# EAGLE library part PIC10F20* (library microchip)
Microchip PIC10F200, 202, 204 and 206 6-pin 8-bit Flash microcontroller 256/512 words program memory, 16/24 bytes RAM 4 I/O, 1 8-bit timer, 1 comparator on PIC10F204 and PIC10F206
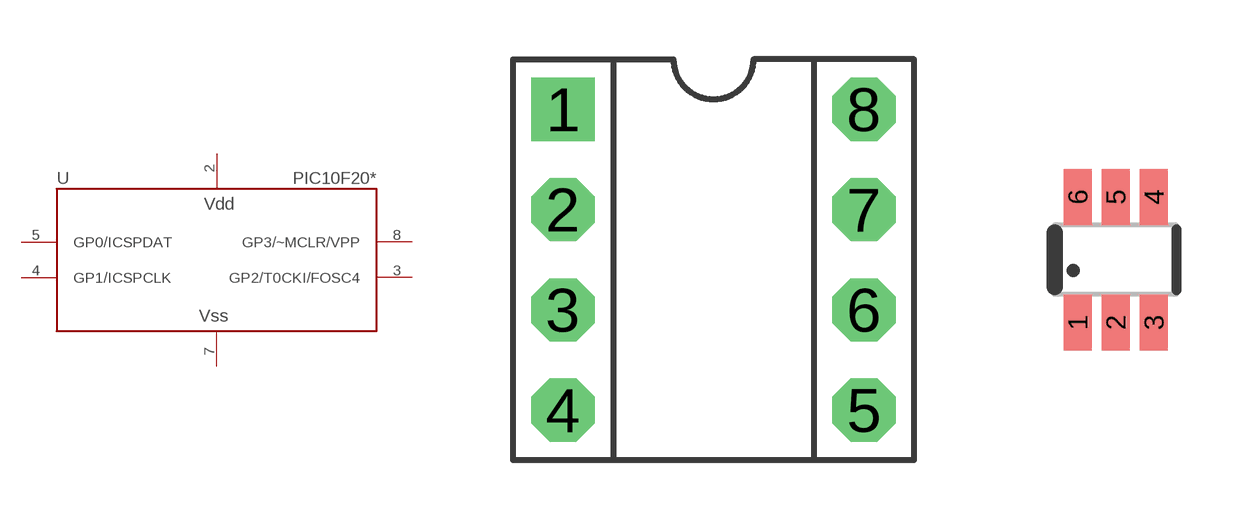
[diagram p16: symbol with the pads of DIP-8; footprints DIP-8, SOT-23-6]

Designator prefix U

## PIC10F200P, PIC10F202P, PIC10F204P, PIC10F206P  [DIP-8]
2  VDD  pwr
3  GP2/T0CKI/FOSC4
4  GP1/ICSPCLK
5  GP0/ICSPDAT
7  VSS  pwr
8  GP3/~MCLR/VPP  in

## PIC10F200OT, PIC10F202OT, PIC10F204OT, PIC10F206OT  [SOT-23-6]
1  GP0/ICSPDAT
2  VSS  pwr
3  GP1/ICSPCLK
4  GP2/T0CKI/FOSC4
5  VDD  pwr
6  GP3/~MCLR/VPP  in

## Footprint DIP-8 (pad centres in mm)
DIP-8
drill 0.813 pad 1.6 square: 1 -3.81,3.81
drill 0.813 pad 1.6 octagon: 2 -3.81,1.27; 3 -3.81,-1.27; 4 -3.81,-3.81; 5 3.81,-3.81; 6 3.81,-1.27; 7 3.81,1.27; 8 3.81,3.81

## Footprint SOT-23-6 (pad centres in mm)
smd 0.7 x 1.4: 1 -0.953,-1.57; 2 0,-1.57; 3 0.953,-1.57; 4 0.953,1.57; 5 -0.003,1.57; 6 -0.95,1.57